# EAGLE library part RHF78-052 (library RHF78-052)
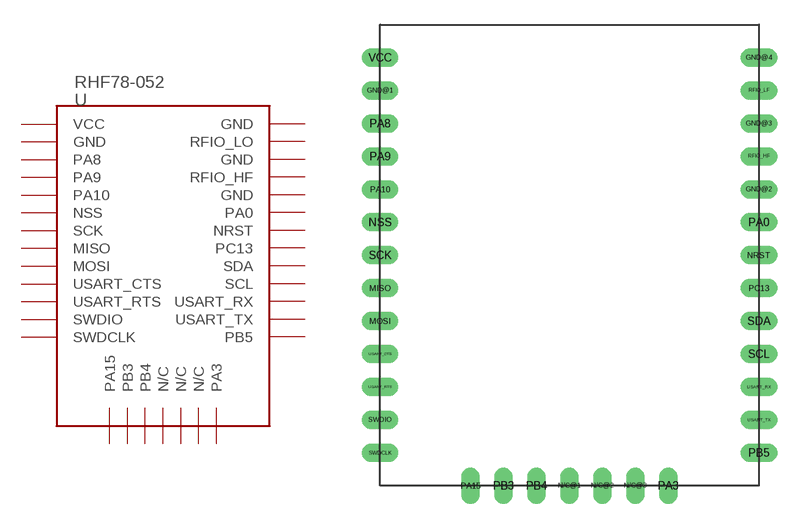
[diagram p0: symbol with the pads of RHF78-052; footprint RHF78-052]

Designator prefix U

## RHF78-052  [RHF78-052]
GND@1  GND  pwr
GND@2  GND  pwr
GND@3  GND  pwr
GND@4  GND  pwr
MISO  MISO
MOSI  MOSI
N/C@1  N/C
N/C@2  N/C
N/C@3  N/C
NRST  NRST
NSS  NSS
PA0  PA0
PA3  PA3
PA8  PA8
PA9  PA9
PA10  PA10
PA15  PA15
PB3  PB3
PB4  PB4
PB5  PB5
PC13  PC13
RFIO_HF  RFIO_HF
RFIO_LF  RFIO_LO
SCK  SCK
SCL  SCL
SDA  SDA
SWDCLK  SWDCLK
SWDIO  SWDIO
USART_CTS  USART_CTS
USART_RTS  USART_RTS
USART_RX  USART_RX
USART_TX  USART_TX
VCC  VCC  pwr

## Footprint RHF78-052 (pad centres in mm)
drill 0.6 long: GND@1 -12,8; GND@2 11,2; GND@3 11,6; GND@4 11,10; MISO -12,-4; MOSI -12,-6; N/C@1 -0.5,-16; N/C@2 1.5,-16; N/C@3 3.5,-16; NRST 11,-2; NSS -12,0; PA0 11,0; PA3 5.5,-16; PA8 -12,6; PA9 -12,4; PA10 -12,2; PA15 -6.5,-16; PB3 -4.5,-16; PB4 -2.5,-16; PB5 11,-14; PC13 11,-4; RFIO_HF 11,4; RFIO_LF 11,8; SCK -12,-2; SCL 11,-8; SDA 11,-6; SWDCLK -12,-14; SWDIO -12,-12; USART_CTS -12,-8; USART_RTS -12,-10; USART_RX 11,-10; USART_TX 11,-12; VCC -12,10